# Altium schematic symbol library Teensy3_2.SchLib: 1 symbol
Pins are listed as number, name and electrical type; pins without a type are passive.

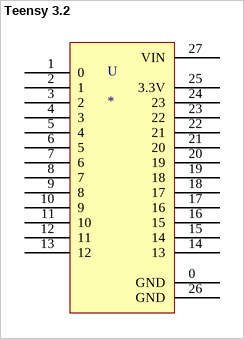
[diagram p0: symbol Teensy 3.2]

## Teensy 3.2
designator U
footprint Teensy3_2
pins: 0 GND, 1 0, 2 1, 3 2, 4 3, 5 4, 6 5, 7 6, 8 7, 9 8, 10 9, 11 10, 12 11, 13 12, 14 13, 15 14, 16 15, 17 16, 18 17, 19 18, 20 19, 21 20, 22 21, 23 22, 24 23, 25 3.3V, 26 GND, 27 VIN (power)